# Altium schematic symbol library PA1005.SchLib: 1 symbol
Pins are listed as number, name and electrical type; pins without a type are passive.

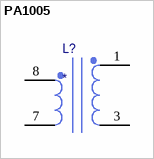
[diagram p0: symbol PA1005]

## PA1005
designator L?
pins: 1, 3, 7, 8